# EAGLE library part ARDUINO_SHIELD (library std-components-pir)
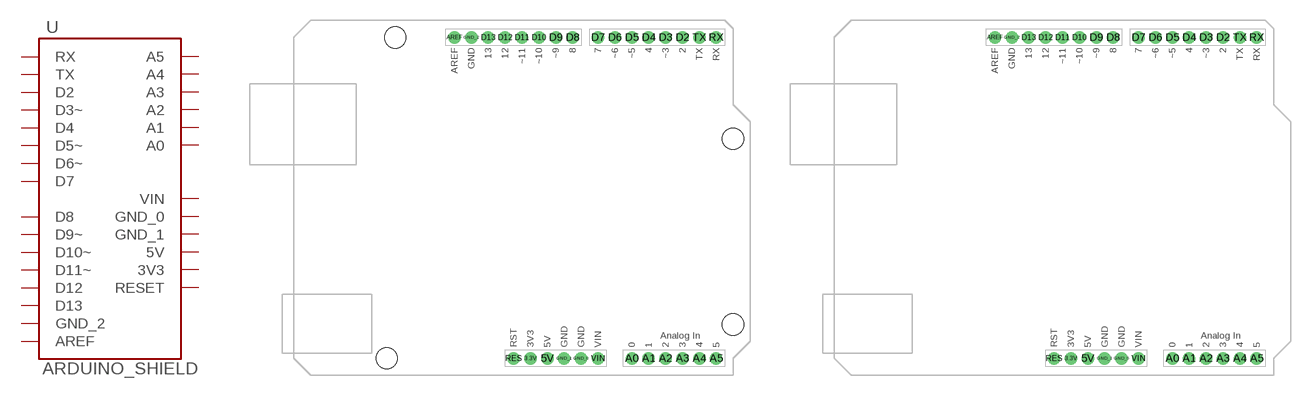
[diagram p3: symbol with the pads of UNO_SHIELD_HOLES; footprints UNO_SHIELD_HOLES, UNO_SHIELD_NO_HOLES]

Designator prefix U

## ARDUINO_SHIELD_HOLES_BIG  [UNO_SHIELD_HOLES]
3.3V  3V3
5V  5V
A0  A0
A1  A1
A2  A2
A3  A3
A4  A4
A5  A5
AREF  AREF
D2  D2
D3  D3~
D4  D4
D5  D5~
D6  D6~
D7  D7
D8  D8
D9  D9~
D10  D10~
D11  D11~
D12  D12
D13  D13
GND_0  GND_0
GND_1  GND_1
GND_2  GND_2
RES  RESET
RX  RX
TX  TX
VIN  VIN

## ARDUINO_SHIELD_NO_HOLES_BIG  [UNO_SHIELD_NO_HOLES]
Pads as for UNO_SHIELD_HOLES

## ARDUINO_SHIELD_HOLES_SMALL  [UNO_SHIELD_SMALL_HOLES]
Pads as for UNO_SHIELD_HOLES

## ARDUINO_SHIELD_NO_HOLES_SMALL  [UNO_SHIELD_SMALL_NO_HOLES]
Pads as for UNO_SHIELD_HOLES

## ARDUINO_SHIELD_3_HOLES_SMALL  [UNO_SHIELD_SMALL_THREE_HOLES]
Pads as for UNO_SHIELD_HOLES

## Footprint UNO_SHIELD_HOLES (pad centres in mm)
drill 1.016 pad 1.88: 3.3V 35.56,2.54; 5V 38.1,2.54; A0 50.8,2.54; A1 53.34,2.54; A2 55.88,2.54; A3 58.42,2.54; A4 60.96,2.54; A5 63.5,2.54; AREF 24.13,50.8; D2 58.42,50.8; D3 55.88,50.8; D4 53.34,50.8; D5 50.8,50.8; D6 48.26,50.8; D7 45.72,50.8; D8 41.91,50.8; D9 39.37,50.8; D10 36.83,50.8; D11 34.29,50.8; D12 31.75,50.8; D13 29.21,50.8; GND_0 43.18,2.54; GND_1 40.64,2.54; GND_2 26.67,50.8; RES 33.02,2.54; RX 63.5,50.8; TX 60.96,50.8; VIN 45.72,2.54
hole 3.2 at 15.24,50.8
hole 3.2 at 66.04,35.56
hole 3.2 at 66.04,7.62
hole 3.2 at 13.97,2.54

## Footprint UNO_SHIELD_NO_HOLES (pad centres in mm)
drill 1.016 pad 1.88: 3.3V 35.56,2.54; 5V 38.1,2.54; A0 50.8,2.54; A1 53.34,2.54; A2 55.88,2.54; A3 58.42,2.54; A4 60.96,2.54; A5 63.5,2.54; AREF 24.13,50.8; D2 58.42,50.8; D3 55.88,50.8; D4 53.34,50.8; D5 50.8,50.8; D6 48.26,50.8; D7 45.72,50.8; D8 41.91,50.8; D9 39.37,50.8; D10 36.83,50.8; D11 34.29,50.8; D12 31.75,50.8; D13 29.21,50.8; GND_0 43.18,2.54; GND_1 40.64,2.54; GND_2 26.67,50.8; RES 33.02,2.54; RX 63.5,50.8; TX 60.96,50.8; VIN 45.72,2.54

## Footprint UNO_SHIELD_SMALL_HOLES (pad centres in mm)
drill 1.016 pad 1.88: 3.3V 35.56,2.54; 5V 38.1,2.54; A0 50.8,2.54; A1 53.34,2.54; A2 55.88,2.54; A3 58.42,2.54; A4 60.96,2.54; A5 63.5,2.54; AREF 24.13,50.8; D2 58.42,50.8; D3 55.88,50.8; D4 53.34,50.8; D5 50.8,50.8; D6 48.26,50.8; D7 45.72,50.8; D8 41.91,50.8; D9 39.37,50.8; D10 36.83,50.8; D11 34.29,50.8; D12 31.75,50.8; D13 29.21,50.8; GND_0 43.18,2.54; GND_1 40.64,2.54; GND_2 26.67,50.8; RES 33.02,2.54; RX 63.5,50.8; TX 60.96,50.8; VIN 45.72,2.54
hole 3.2 at 66.04,7.62
hole 3.2 at 15.24,50.8
hole 3.2 at 13.97,2.54
hole 3.2 at 66.04,35.56

## Footprint UNO_SHIELD_SMALL_NO_HOLES (pad centres in mm)
drill 1.016 pad 1.88: 3.3V 35.56,2.54; 5V 38.1,2.54; A0 50.8,2.54; A1 53.34,2.54; A2 55.88,2.54; A3 58.42,2.54; A4 60.96,2.54; A5 63.5,2.54; AREF 24.13,50.8; D2 58.42,50.8; D3 55.88,50.8; D4 53.34,50.8; D5 50.8,50.8; D6 48.26,50.8; D7 45.72,50.8; D8 41.91,50.8; D9 39.37,50.8; D10 36.83,50.8; D11 34.29,50.8; D12 31.75,50.8; D13 29.21,50.8; GND_0 43.18,2.54; GND_1 40.64,2.54; GND_2 26.67,50.8; RES 33.02,2.54; RX 63.5,50.8; TX 60.96,50.8; VIN 45.72,2.54

## Footprint UNO_SHIELD_SMALL_THREE_HOLES (pad centres in mm)
drill 1.016 pad 1.88: 3.3V 35.56,2.54; 5V 38.1,2.54; A0 50.8,2.54; A1 53.34,2.54; A2 55.88,2.54; A3 58.42,2.54; A4 60.96,2.54; A5 63.5,2.54; AREF 24.13,50.8; D2 58.42,50.8; D3 55.88,50.8; D4 53.34,50.8; D5 50.8,50.8; D6 48.26,50.8; D7 45.72,50.8; D8 41.91,50.8; D9 39.37,50.8; D10 36.83,50.8; D11 34.29,50.8; D12 31.75,50.8; D13 29.21,50.8; GND_0 43.18,2.54; GND_1 40.64,2.54; GND_2 26.67,50.8; RES 33.02,2.54; RX 63.5,50.8; TX 60.96,50.8; VIN 45.72,2.54
hole 3.2 at 15.24,50.8
hole 3.2 at 13.97,2.54
hole 3.2 at 66.04,35.56